# EAGLE library part STM32L062K8T6 (library STM32)
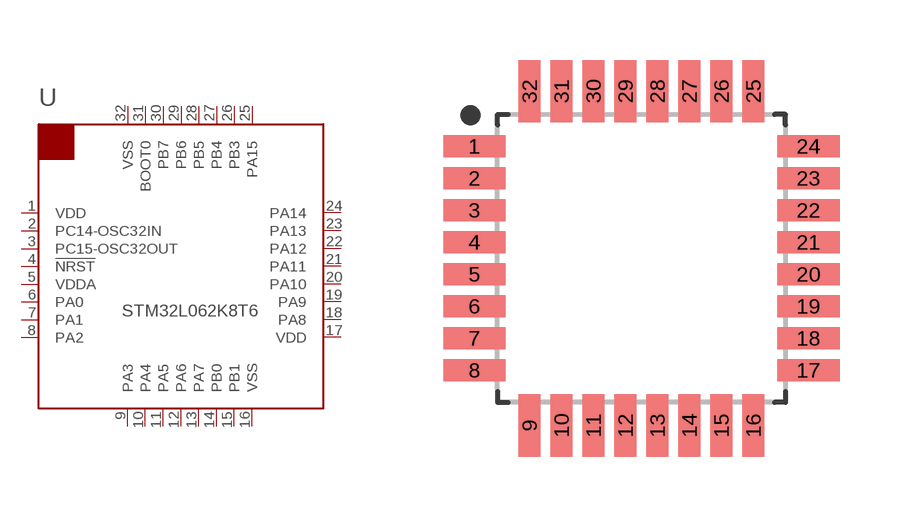
[diagram p9: symbol with the pads of LQFP-32; footprint LQFP-32]

Designator prefix -

## STM32L062K8T6  [LQFP-32]
1  VDD  pwr
2  PC14-OSC32IN
3  PC15-OSC32OUT
4  !NRST
5  VDDA  pwr
6  PA0
7  PA1
8  PA2
9  PA3
10  PA4
11  PA5
12  PA6
13  PA7
14  PB0
15  PB1
16  VSS
17  VDD  pwr
18  PA8
19  PA9
20  PA10
21  PA11
22  PA12
23  PA13
24  PA14
25  PA15
26  PB3
27  PB4
28  PB5
29  PB6
30  PB7
31  BOOT0  in
32  VSS

## Footprint LQFP-32 (pad centres in mm)
32-QFP, 0.80 mm pitch, 9.00 mm span, 7.00 X 7.00 X 1.60 mm body 32-pin QFP package with 0.80 mm pitch, 9.00 mm lead span1 X 9.00 mm lead span2 with body size 7.00 X 7.00 X 1.60 mm
smd 1.559 x 0.547: 1 -4.178,2.8; 2 -4.178,2; 3 -4.178,1.2; 4 -4.178,0.4; 5 -4.178,-0.4; 6 -4.178,-1.2; 7 -4.178,-2; 8 -4.178,-2.8; 17 4.178,-2.8; 18 4.178,-2; 19 4.178,-1.2; 20 4.178,-0.4; 21 4.178,0.4; 22 4.178,1.2; 23 4.178,2; 24 4.178,2.8
smd 0.547 x 1.559: 9 -2.8,-4.178; 10 -2,-4.178; 11 -1.2,-4.178; 12 -0.4,-4.178; 13 0.4,-4.178; 14 1.2,-4.178; 15 2,-4.178; 16 2.8,-4.178; 25 2.8,4.178; 26 2,4.178; 27 1.2,4.178; 28 0.4,4.178; 29 -0.4,4.178; 30 -1.2,4.178; 31 -2,4.178; 32 -2.8,4.178